# Altium schematic symbol library HFBR-14x2TZ-TX.SchLib: 1 symbol
Pins are listed as number, name and electrical type; pins without a type are passive.

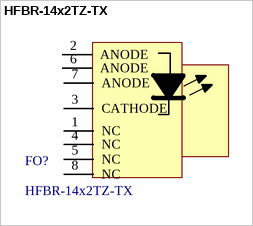
[diagram p0: symbol HFBR-14x2TZ-TX]

## HFBR-14x2TZ-TX
designator FO?
HFBR-14x2TZ-TX fiber optic threaded ST port
footprint HFBR-x41xTZ (HFBRx41xTZ ST threaded port fiber optic)
pins: 1 NC, 2 ANODE, 3 CATHODE, 4 NC, 5 NC, 6 ANODE, 7 ANODE, 8 NC